# Altium schematic symbol library 2015PCB新.SCHLIB: 33 symbols
Pins are listed as number, name and electrical type; pins without a type are passive.

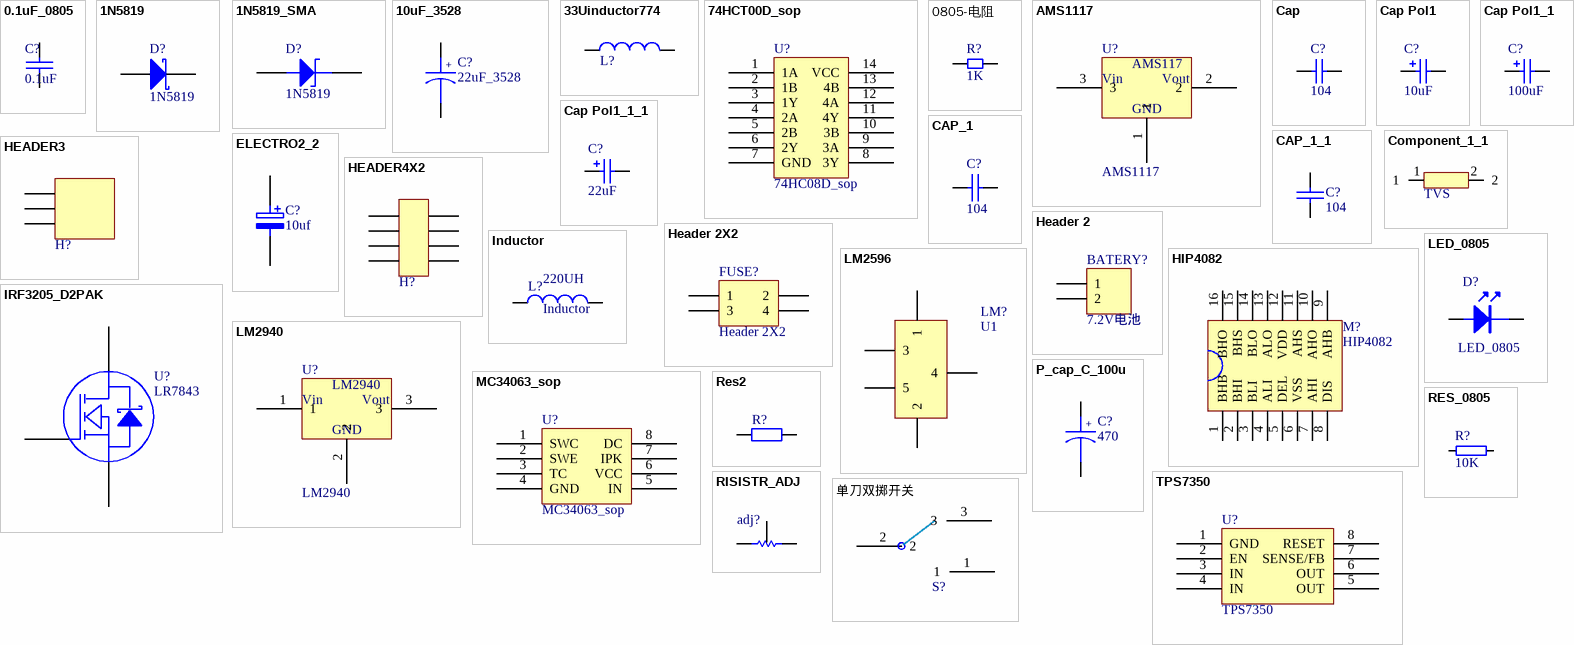
[diagram p0: symbols 0.1uF_0805 to 单刀双掷开关]

## 0.1uF_0805
designator C?, comment 0.1uF
footprint 0805
pins: 1, 2

## 1N5819
designator D?
footprint 1N5819
pins: 1, 2

## 1N5819_SMA
designator D?, comment 1N5819
footprint SS14_SMA (Molded Diode, 2-Leads, Body 4.3x2.6mm, IPC Low Density)
pins: 1 A, 2 K

## 10uF_3528
designator C?, comment 22uF_3528
footprint 3528_B
pins: 1, 2
text: +

## 33Uinductor774
designator L?, comment L?  (value not drawn)
footprint 7*7*4
pins: 1, 2

## 74HCT00D_sop
designator U?, comment 74HC08D_sop
footprint SOP-14 (SOIC, 14-Leads, Body 8.8x4.0mm (max), Pitch 1.27mm, IPC Medium Density)
pins: 1 1A, 2 1B, 3 1Y, 4 2A, 5 2B, 6 2Y, 7 GND, 8 3Y, 9 3A, 10 3B, 11 4Y, 12 4A, 13 4B, 14 VCC

## 0805-电阻
designator R?, comment value 1K  (hidden comment: RES)
footprint 0805
pins: 1, 2

## AMS1117
designator U?
footprint PCBComponent_1
footprint SOT223_forAMS1117 (SOT223, 4-Leads, Body 6.7x7.3mm (max), Pitch 2.30mm, IPC Low Density)
pins: 1, 2, 3
text: AMS117; Vin; Vout; GND

## Cap
designator C?  value 104  (hidden comment: Cap)
Capacitor; Published: 8-Jun-2000; LatestRevisionDate: 17-Jul-2002; LatestRevisionNote: Re-released for DXP Platform.; PackageReference: RAD-0.3; Publisher: Altium Limited
footprint RAD-0.3 (Capacitor; 2 Leads)
footprint VP32-3.2 (Capacitor, Ceramic, Thru-Hole, Dipped Radial; Body 5.1 x 3.2 mm (WxT) Pin Spacing 2.54 mm (typ))
footprint VP45-3.2 (Capacitor, Ceramic, Thru-Hole, Dipped Radial; Body 7.8 x 3.2 mm (WxT) Pin Spacing 5.08 mm (typ))
simulation model CAP (Capacitor)
signal-integrity model Cap
footprint PCBComponent_1
pins: 1, 2

## Cap Pol1
designator C?, comment 10uF
Polarized Capacitor (Radial); Published: 8-Jun-2000; LatestRevisionDate: 17-Jul-2002; LatestRevisionNote: Re-released for DXP Platform.; PackageReference: RB7.6-15; Publisher: Altium Limited; Value: 10uF
footprint RB7.6-15
footprint HA-C1
footprint A
footprint B
footprint 1206
pins: 1, 2
2 alternate drawings of the same symbol

## Cap Pol1_1
designator C?  value 100uF  (hidden comment: Cap Pol1_1)
Polarized Capacitor (Radial); Published: 8-Jun-2000; LatestRevisionDate: 17-Jul-2002; LatestRevisionNote: Re-released for DXP Platform.; PackageReference: RB7.6-15; Publisher: Altium Limited
footprint PCBComponent_1
simulation model CAP (Capacitor)
signal-integrity model Cap Pol
pins: 1, 2
1 alternate drawing of the same symbol

## Cap Pol1_1_1
designator C?, comment value 22uF  (hidden comment: Cap Pol1_1)
Polarized Capacitor (Radial); Published: 8-Jun-2000; LatestRevisionDate: 17-Jul-2002; LatestRevisionNote: Re-released for DXP Platform.; PackageReference: RB7.6-15; Publisher: Altium Limited
footprint PCBComponent_1
simulation model CAP (Capacitor)
signal-integrity model Cap Pol
pins: 1, 2
1 alternate drawing of the same symbol

## CAP_1
designator C?, comment 104
Capacitor
footprint c0805
pins: 1, 2

## CAP_1_1
designator C?, comment 104
Capacitor
footprint 0805
pins: 1, 2

## Component_1_1
designator erjiguan?, comment TVS
footprint 1812 (Chip Capacitor, Body 4.5x3.2mm, IPC High Density)
pins: 1, 2

## ELECTRO2_2
designator C?, comment 10uf
Electrolytic Capacitor
footprint 1206
pins: 1, 2

## HEADER3
designator H?, comment HEADER  (value not drawn)
footprint 干簧管
pins: 1, 2, 3

## HEADER4X2
designator H?  (value not drawn)
footprint HEADER4X2
pins: 1, 2, 3, 4, 5, 6, 7, 8

## Header 2
designator BATERY?, comment 7.2V电池
Header, 2-Pin; LatestRevisionDate: 17-Jul-2002; LatestRevisionNote: Re-released for DXP Platform.; Publisher: Altium Limited
footprint PCBComponent_1
signal-integrity model Connector
pins: 1, 2

## Header 2X2
designator FUSE?
Header, 2-Pin, Dual row; LatestRevisionDate: 17-Jul-2002; LatestRevisionNote: Re-released for DXP Platform.; Publisher: Altium Limited
footprint PCBComponent_1
signal-integrity model Connector
pins: 1, 2, 3, 4

## HIP4082
designator M?
footprint SO-8
footprint SO-16
pins: 1 BHB, 2 BHI, 3 BLI, 4 ALI, 5 DEL, 6 VSS, 7 AHI, 8 DIS, 9 AHB, 10 AHO, 11 AHS, 12 VDD, 13 ALO, 14 BLO, 15 BHS, 16 BHO
2 alternate drawings of the same symbol

## Inductor
designator L?  value 220UH
Code_IEC: 1005; Published: 8-Jun-2000; LatestRevisionDate: 29-May-2009; LatestRevisionNote: IPC-7351 Footprint Added.; PackageReference: 0402-A; Publisher: Altium Limited; PackageDescription: Chip Inductor; Code_JEITA: 0402
footprint PCBComponent_1
simulation model INDUCTOR (Inductor)
signal-integrity model Inductor
pins: 1, 2

## IRF3205_D2PAK
designator U?, comment LR7843
footprint DPAK
pins: 1 G, 2 D, 3 S

## LED_0805
designator D?
footprint 0805
pins: 1, 2

## LM2596
designator LM?, comment U1
footprint LM2596
pins: 1, 2, 3, 4, 5

## LM2940
designator U?
footprint PCBComponent_1
pins: 1, 2, 3
text: Vin; Vout; GND

## MC34063_sop
designator U?
footprint SOP-8 (SOIC, 8-Leads, Body 5.0x4.0mm (max), Pitch 1.27mm, IPC Medium Density)
pins: 1 SWC, 2 SWE, 3 TC, 4 GND, 5 IN, 6 VCC, 7 IPK, 8 DC

## P_cap_C_100u
designator C?, comment 470
footprint PCBComponent_1
pins: 1, 2
text: +

## Res2
designator R?  (value not drawn)
Resistor; Value: 0.22; Published: 8-Jun-2000; LatestRevisionDate: 17-Jul-2002; LatestRevisionNote: Re-released for DXP Platform.; PackageReference: AXIAL-0.4; Publisher: Altium Limited; PackageDescription: Axial Device, Thru-Hole; 2 Leads; 0.4 in Pin Spacing
footprint AXIAL-0.4 (Axial Device, Thru-Hole; 2 Leads; 0.4 in Pin Spacing)
simulation model RESISTOR (Resistor)
signal-integrity model Res
footprint 0805
pins: 1, 2

## RES_0805
designator R?, comment 10K
footprint 0805
pins: 1, 2

## RISISTR_ADJ
designator adj?  (value not drawn)
footprint RISIATER_ADJ
footprint Model Name (Footprint not found)
pins: 1, 2, 3

## TPS7350
designator U?
footprint SO-8
pins: 1 GND, 2 EN, 3 IN, 4 IN, 5 OUT, 6 OUT, 7 SENSE/FB, 8 RESET
2 alternate drawings of the same symbol

## 单刀双掷开关
designator S?  (value not drawn)
footprint 三脚开关
pins: 1, 2, 3